# Altium schematic symbol library kr1818vg93.SchLib: 1 symbol
Pins are listed as number, name and electrical type; pins without a type are passive.

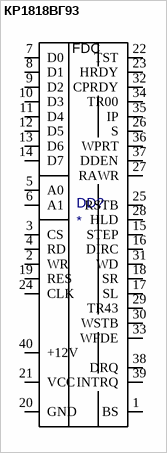
[diagram p0: symbol КР1818ВГ93]

## КР1818ВГ93
designator DD?
footprint KR1818VG93
pins: 1 BS, 2 WR, 3 CS, 4 RD, 5 A0, 6 A1, 7 D0, 8 D1, 9 D2, 10 D3, 11 D4, 12 D5, 13 D6, 14 D7, 15 STEP, 16 DIRC, 17 SL, 18 SR, 19 RES, 20 GND, 21 VCC, 22 TST, 23 HRDY, 24 CLK, 25 RSTB, 26 S, 27 RAWR, 28 HLD, 29 TR43, 30 WSTB, 31 WD, 32 CPRDY, 33 WFDE, 34 TR00, 35 IP, 36 WPRT, 37 DDEN, 38 DRQ, 39 INTRQ, 40 +12V
text: FDC